# Altium footprint library CLAVIERI2C.PcbLib: 8 footprints
Each footprint in its own frame and in the unit in brackets; x right, y up, seen from the top. Pads: shape width x height; smd on the part's side, far side on the other; paste and mask are expansions set on the pad; w line width, h text height; cw(c..) or ccw(c..) is an arc to the next point about the centre after c.
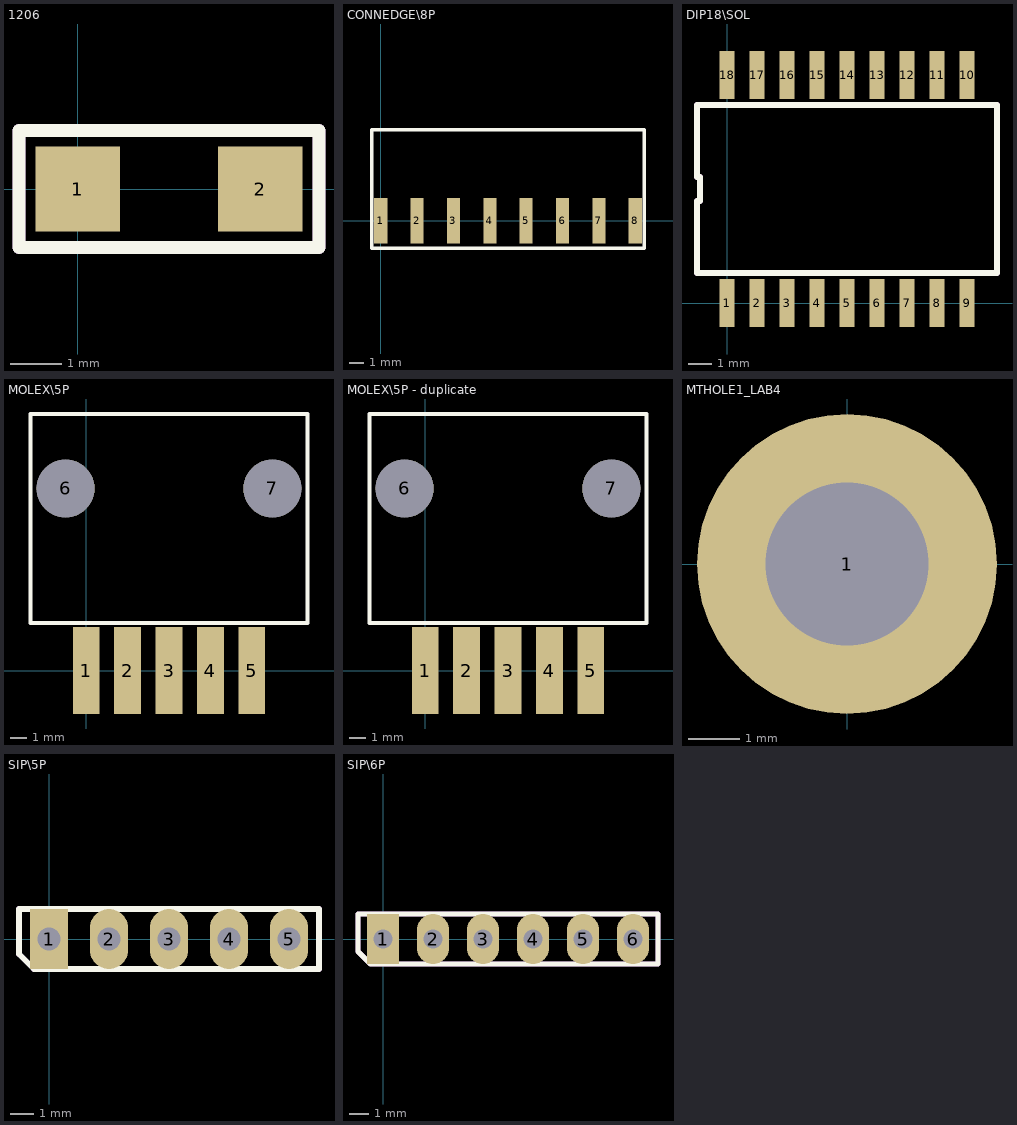
[diagram p0: the footprints below, top view; thin cyan lines are the x and y axes]

## 1206 [mil]
pads (2):
  rect 65x65 smd: 1(0,0) 2(140,0)
Top Overlay:
  lines w10: -45,-45 -45,45 185,45 185,-45 -45,-45
  text ".Designator" at -55,75 h60
Mechanical 1:
  lines w10: -45,-45 -45,45 185,45 185,-45 -45,-45
  text "VALUE" at -30,-225 h56.25
  text ".Designator" at -55,75 h60
  text ".Pattern" at -30,-150 h60

## CONNEDGE\8P [mil]
pads (8):
  rect 36x125 smd: 1(0,0) 2(100,0) 3(200,0) 4(300,0) 5(400,0) 6(500,0) 7(600,0) 8(700,0)
Top Overlay:
  lines w10: -25,-75 -25,250 725,250 725,-75 -25,-75
  text ".Designator" at 725.55,-80.62 h45
Mechanical 1:
  text ".Pattern" at 157.5,-8.38 h22.5
  text ".Comment" at 246.67,-118.13 h37.5
  text ".Designator" at 260.55,84.38 h37.5

## DIP18\SOL [mil]
pads (18):
  rect 25x80 smd: 1(0,0) 2(50,0) 3(100,0) 4(150,0) 5(200,0) 6(250,0) 7(300,0) 8(350,0) 9(400,0) 10(400,380) 11(350,380) 12(300,380) 13(250,380) 14(200,380) 15(150,380) 16(100,380) 17(50,380) 18(0,380)
Top Overlay:
  lines w10: -50,50 450,50 450,330 -50,330 -50,210 -45,210 -45,170 -50,170 -50,50
  text ".Designator" at 525,115 h45
Mechanical 1:
  lines w10: -50,50 -50,170 -45,170 -45,210 -50,210 -50,330 450,330 450,50 -50,50
  text ".Pattern" at -50,-160 h60
  text "VALUE" at 0,90 h56.25
  text ".Pattern" at -25,-285 h60
  text ".Designator" at 0,165 h60

## MOLEX\5P [mil]
pads (7):
  rect 65x210 smd: 1(0,0) 2(100,0) 3(200,0) 4(300,0) 5(400,0)
  round 140 / inner round 60 / far side round 140 hole 140: 6(-50,440) 7(450,440)
Top Overlay:
  lines w10: -135,115 535,115 535,620 -135,620 -135,125 -135,115
  text ".Designator" at 85.55,434.38 h45
Mechanical 1:
  text ".Designator" at 110.55,84.38 h37.5
  text ".Comment" at 96.67,-118.13 h37.5
  text ".Pattern" at 32.5,-8.38 h22.5

## MOLEX\5P - duplicate [mil]
pads (7):
  rect 65x210 smd: 1(0,0) 2(100,0) 3(200,0) 4(300,0) 5(400,0)
  round 140 / inner round 60 / far side round 140 hole 140: 6(-50,440) 7(450,440)
Top Overlay:
  lines w10: -135,115 535,115 535,620 -135,620 -135,125 -135,115
  text ".Designator" at 610.55,134.38 h45
Mechanical 1:
  text ".Pattern" at 32.5,-8.38 h22.5
  text ".Comment" at 96.67,-118.13 h37.5
  text ".Designator" at 110.55,84.38 h37.5

## MTHOLE1_LAB4 [mil]
pads (1):
  round 230 / inner round 60 / far side round 230 hole 125: 1(0,0)
Top Overlay:
  text ".Designator" at -100,75 h45
Mechanical 1:
  text "VALUE" at -125,-175 h56.25
  text ".Designator" at -125,100 h60
  text ".Pattern" at -125,-325 h60
  text ".Pattern" at -125,-250 h60

## SIP\5P [mil]
pads (5):
  rect 64x100 / inner round 60 / far side rect 64x100 hole 38: 1(0,0)
  oval 64x100 / inner round 60 / far side oval 64x100 hole 38: 2(100,0) 3(200,0) 4(300,0) 5(400,0)
Top Overlay:
  lines w10: -50,-25 -25,-50 450,-50 450,50 -50,50 -50,-25
  text ".Designator" at -50,-100 h45
Mechanical 1:
  lines w10: -50,-25 -25,-50 450,-50 450,50 -50,50 -50,-25
  text ".Pattern" at 50,-300 h60
  text ".Pattern" at 75,-250 h60
  text "VALUE" at 75,-175 h56.25
  text ".Designator" at 50,75 h60

## SIP\6P [mil]
pads (6):
  rect 64x100 / inner round 60 / far side rect 64x100 hole 38: 1(0,0)
  oval 64x100 / inner round 60 / far side oval 64x100 hole 38: 2(100,0) 3(200,0) 4(300,0) 5(400,0) 6(500,0)
Top Overlay:
  lines w10: -50,-25 -50,50 550,50 550,-50 -25,-50 -50,-25
  text ".Designator" at -50,-100 h45
Mechanical 1:
  lines w10: -50,-25 -50,50 550,50 550,-50 -25,-50 -50,-25
  text "VALUE" at 75,-150 h56.25
  text ".Pattern" at 75,-250 h60
  text ".Pattern" at 100,-300 h60
  text ".Designator" at 100,75 h60